# Altium footprint library SnapEDApcb.PcbLib: 1 footprints
Each footprint in its own frame and in the unit in brackets; x right, y up, seen from the top. Pads: shape width x height; smd on the part's side, far side on the other; paste and mask are expansions set on the pad; w line width, h text height; cw(c..) or ccw(c..) is an arc to the next point about the centre after c.
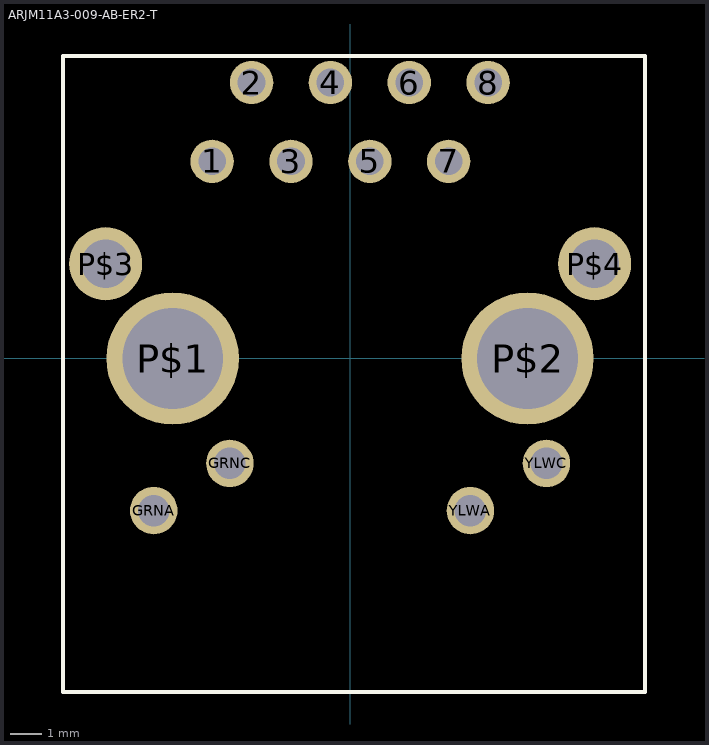
[diagram p0: the footprint, top view; thin cyan lines are the x and y axes]

## ARJM11A3-009-AB-ER2-T [mm]
pads (16):
  round 1.398 hole 0.89: 1(-4.445,6.35) 2(-3.175,8.89) 3(-1.905,6.35) 4(-0.635,8.89) 5(0.635,6.35) 6(1.905,8.89) 7(3.175,6.35) 8(4.445,8.89)
  round 1.53 hole 1.02: GRNA(-6.325,-4.9) GRNC(-3.875,-3.38) YLWA(3.875,-4.9) YLWC(6.325,-3.38)
  round 4.266 hole 3.25: P$1(-5.715,0) P$2(5.715,0)
  round 2.355 hole 1.57: P$3(-7.875,3.05) P$4(7.875,3.05)
Top Overlay:
  lines w0.127: -9.25,-10.75 -9.25,9.75 9.5,9.75 9.5,-10.75 -9.25,-10.75